# Altium schematic symbol library B10S_R2_00001.SchLib: 1 symbol
Pins are listed as number, name and electrical type; pins without a type are passive.

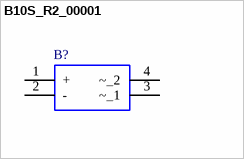
[diagram p0: symbol B10S_R2_00001]

## B10S_R2_00001
designator B?
Bridge Rectifiers PJ/B10S/TR/13"/HF/3K/MDI/GPP/BRIDGE/GMD-05SH/MDI05-QI01/PJ///; Manufacturer_Name: PANJIT; Geometry.Height: 2.9mm; Mouser Part Number: 241-B10S_R2_00001; Mouser Price/Stock: https://www.mouser.co.uk/ProductDetail/Panjit/B10S_R2_00001?qs=sPbYRqrBIVnYxoMPgIEqnQ%3D%3D; Manufacturer_Part_Number: B10S_R2_00001; Datasheet Link: *
footprint SOP250P700X290-4N
pins: 1 +, 2 -, 3 ~_1, 4 ~_2